# Altium schematic symbol library TO_220AB_3_Schottky_Diode.SchLib: 1 symbol
Pins are listed as number, name and electrical type; pins without a type are passive.

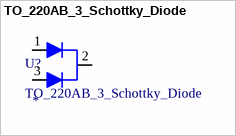
[diagram p0: symbol TO_220AB_3_Schottky_Diode]

## TO_220AB_3_Schottky_Diode
designator U?
TO-220AB-3 Schottky Barrier Diodes (SBD) ROHS; LCSC: *
footprint TO_220AB_3_Schottky_Diode
pins: 1, 2, 3